# Altium footprint library Capasitor.PcbLib: 18 footprints (part 2 of 2)
Each footprint in its own frame and in the unit in brackets; x right, y up, seen from the top. Pads: shape width x height; smd on the part's side, far side on the other; paste and mask are expansions set on the pad; w line width, h text height; cw(c..) or ccw(c..) is an arc to the next point about the centre after c.
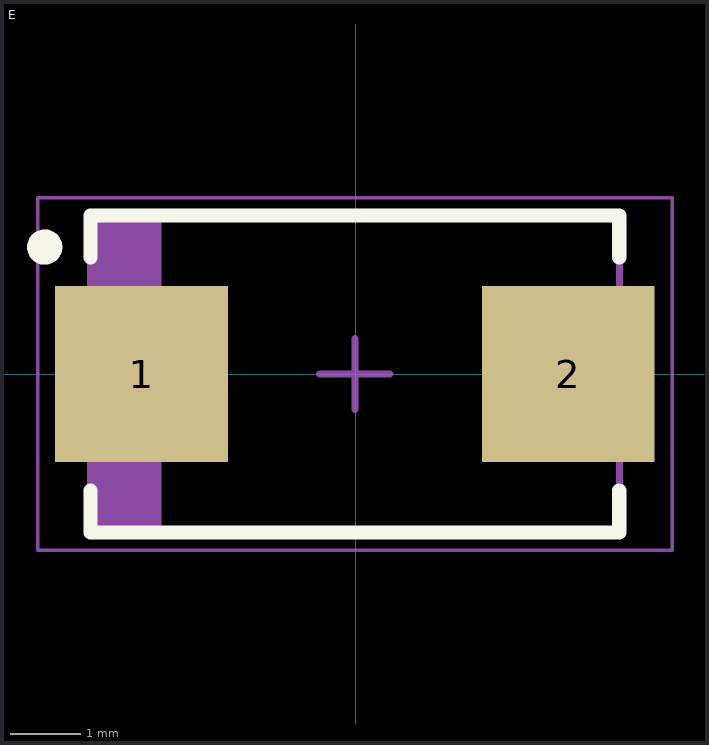
[diagram p1: the footprints below, top view; thin cyan lines are the x and y axes]

## D [mm]

## E [mm]
pads (2):
  rect 2.45x2.5 smd: 1(-3.04,0.004) 2(3.01,0.004)
Top Overlay:
  circle w0.25: c-4.415,1.804 r0.125
  lines w0.2: -3.765,-1.646 -3.765,-2.246 3.735,-2.246 3.735,-1.646 ; -3.765,1.654 -3.765,2.254 3.735,2.254 3.735,1.654
Mechanical 13:
  rectangle: -3.765,-2.246 -2.756,2.254
  lines w0.1: -3.765,-2.246 3.735,-2.246 3.735,2.254 -3.765,2.254 -3.765,-2.246
Mechanical 15:
  lines w0.05: -4.515,-2.496 4.485,-2.496 4.485,2.504 -4.515,2.504 -4.515,-2.496
  lines w0.1: -0.515,0.004 0.485,0.004 ; -0.015,-0.496 -0.015,0.504
3D body "CAPMP7344X43N.step": height 4.3, standoff 0, extent -3.985,-2.246 3.955,2.254